# Altium footprint library fly.PcbLib: 37 footprints (part 1 of 3)
Each footprint in its own frame and in the unit in brackets; x right, y up, seen from the top. Pads: shape width x height; smd on the part's side, far side on the other; paste and mask are expansions set on the pad; w line width, h text height; cw(c..) or ccw(c..) is an arc to the next point about the centre after c.
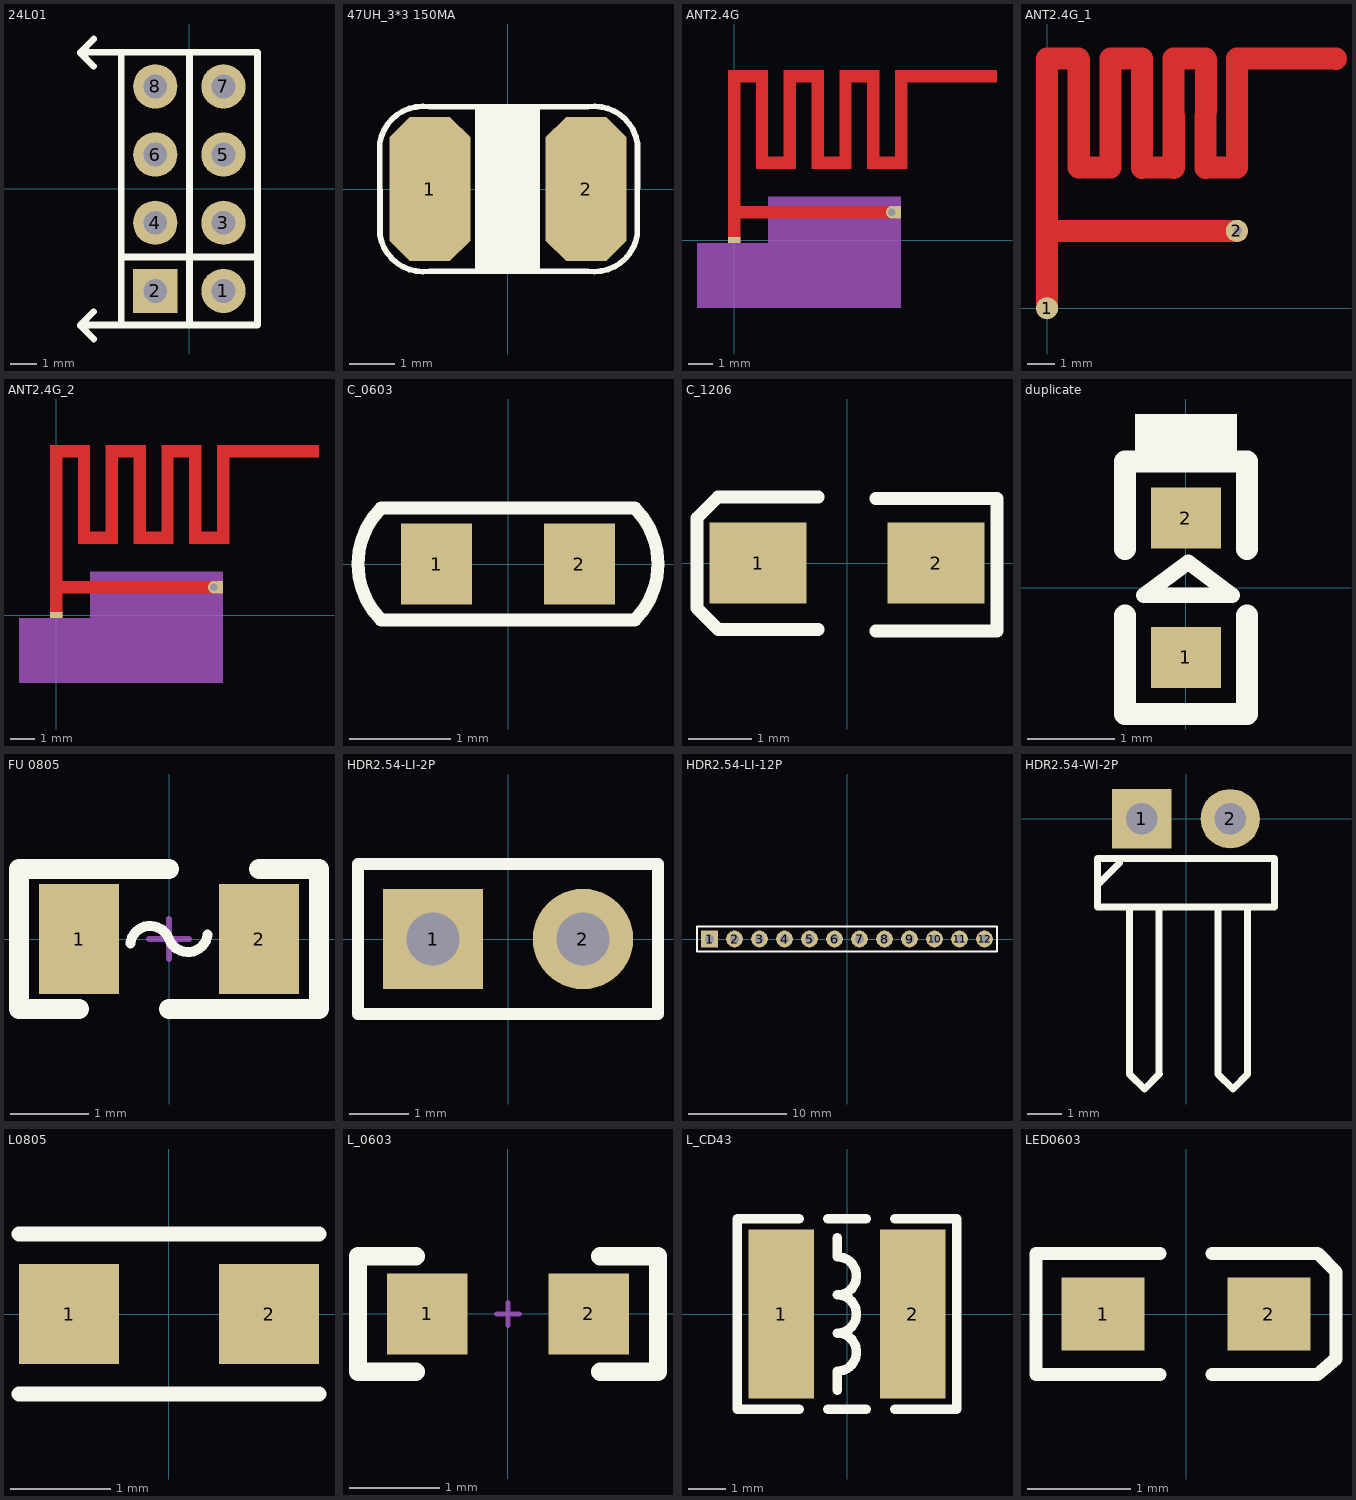
[diagram p0: the footprints below, top view; thin cyan lines are the x and y axes]

## 24L01 [mil]
pads (8):
  round 65 hole 35: 1(50.24,-149.5) 3(50.24,-49.5) 4(-49.76,-49.5) 5(50.24,50.5) 6(-49.76,50.5) 7(50.24,150.5) 8(-49.76,150.5)
  rect 65x65 hole 35: 2(-49.76,-149.5)
Top Overlay:
  lines w10: -159.5,-200.5 -140,-220 ; -140,-180 -159.5,-199.5 -99.76,-199.5 ; -140,180 -159.5,199.5 -159.5,200.5 ; -140,220 -159.5,200.5 ; -99.76,-99.5 0.23,-99.5 100.23,-99.5 ; -159.5,200.5 -99.76,200.5 ; -99.76,-199.5 0.23,-199.5 ; -99.76,-199.5 -99.76,200.5 ; -99.76,200.5 0.24,200.5 ; 0.24,-199.5 100.23,-199.5 100.24,200.5 0.24,200.5 ; 0.24,-199.5 0.24,200.5 ; 0.23,-199.5 0.24,200.5

## 47UH_3*3 150MA [mm]
pads (2):
  oct 1.8x3.2 smd: 1(-1.74,0) 2(1.74,0)
Top Overlay:
  rectangle: -0.732,-1.829 0.715,1.829
  lines w0.127: -2.855,1.019 cw(c-1.896,0.871) -1.748,1.829 1.777,1.829 cw(c1.925,0.871) 2.883,1.019 2.88,-1.019 cw(c1.922,-0.871) 1.774,-1.829 -1.746,-1.829 cw(c-1.894,-0.871) -2.852,-1.019 -2.855,1.019

## ANT2.4G [mil]
height 39.37
pads (2):
  rect 20x10 smd paste-20 mask+2: 1(0,0)
  rect 10x20 smd paste-20 mask+2: 2(265,45)
via 255,45 diameter 19.68 hole 11.81
Top Layer:
  rectangle: -10,35 270,55
  rectangle: 260,255 425,275
  rectangle: 260,115 280,275
  rectangle: 215,115 235,275
  rectangle: 215,115 280,135
  rectangle: 125,115 190,135
  rectangle: 85,255 145,275
  rectangle: 125,115 145,275
  rectangle: 170,115 190,275
  rectangle: 170,255 235,275
  rectangle: 80,115 100,275
  rectangle: 35,115 100,135
  rectangle: 35,115 55,265
  rectangle: -10,255 55,275
  rectangle: -10,-5 10,275
Mechanical 1:
  rectangle: -60,-110 270,-5
Mechanical 3:
  rectangle: 55,-85 270,70
  rectangle: -60,-110 270,-5

## ANT2.4G_1 [mm]
pads (2):
  round 0.8 smd paste+0 mask+0.102: 1(0,0) 2(6.858,2.794)
via 6.883,2.794 diameter 0.61 hole 0.305
Top Layer:
  lines w0.8: -0.001,0.024 0,9.017 1.14,9.017 ; 0,2.794 6.858,2.794 ; 1.144,8.98 1.143,5.08 2.283,5.08 ; 2.286,5.08 2.287,8.98 ; 2.286,9.017 3.426,9.017 ; 3.429,5.077 3.429,8.98 ; 3.429,5.08 4.569,5.08 ; 4.577,5.077 4.572,9.017 5.712,9.017 ; 5.718,5.077 5.74,8.992 ; 5.718,5.08 6.858,5.08 6.858,8.977 ; 6.858,9.017 10.437,9.016

## ANT2.4G_2 [mil]
height 39.37
pads (2):
  rect 20x10 smd paste-20 mask+2: 1(0,0)
  rect 10x20 smd paste-20 mask+2: 2(265,45)
via 255,45 diameter 19.68 hole 11.81
Top Layer:
  rectangle: -10,35 270,55
  rectangle: 260,255 425,275
  rectangle: 260,115 280,275
  rectangle: 215,115 235,275
  rectangle: 215,115 280,135
  rectangle: 125,115 190,135
  rectangle: 85,255 145,275
  rectangle: 125,115 145,275
  rectangle: 170,115 190,275
  rectangle: 170,255 235,275
  rectangle: 80,115 100,275
  rectangle: 35,115 100,135
  rectangle: 35,115 55,265
  rectangle: -10,255 55,275
  rectangle: -10,-5 10,275
Mechanical 1:
  rectangle: -60,-110 270,-5
Mechanical 3:
  rectangle: 55,-85 270,70
  rectangle: -60,-110 270,-5

## C_0603 [mm]
height 6
pads (2):
  rect 0.7x0.8 smd: 1(-0.703,0) 2(0.703,0)
Top Overlay:
  lines w0.127: -1.25,-0.55 cw(c-0.7,0) -1.25,0.55 1.25,0.55 cw(c0.7,0) 1.25,-0.55 -1.25,-0.55
3D body "User Library-CapCeramic_Kemet_0603_1608.STEP": height 0.8, standoff 0, extent -0.8,-0.4 0.8,0.4

## C_1206 [mil]
height 236.22
pads (2):
  rect 60x50 smd: 1(-55,0) 2(55,0)
Top Overlay:
  lines w5: 50.82,39.98 92.72,39.98 ; 60.82,-42.02 92.72,-42.02
  lines w8: -17.82,-41.03 -70.82,-41.03 -79.66,-41.03 -92.82,-27.87 -92.82,-19.03 -92.82,18.75 -92.82,27.93 -79.78,40.97 -70.6,40.97 -17.82,40.97 ; 17.72,-42.02 70.72,-42.02 ; 17.72,39.98 70.72,39.98 ; 44.72,39.98 92.72,39.98 92.72,-42.02 47.72,-42.02
3D body "User Library-cap3216h160.STEP": height 62.99, standoff 0, extent -63,-31.5 62.98,31.5

## duplicate [mm]
pads (2):
  rect 0.8x0.7 smd: 1(0,-0.8) 2(0,0.8)
Top Overlay:
  rectangle: -0.583,1.45 0.586,1.994
  lines w0.178: -0.483,-0.089 0.025,0.292 0.533,-0.089 -0.483,-0.089
  lines w0.254: -0.7,-0.317 -0.7,-1.45 0.7,-1.45 0.7,-0.317 ; -0.7,0.445 -0.7,1.45 0.7,1.45 0.7,0.445

## FU 0805 [mil] "贴片保险丝"
pads (2):
  rect 40x55 smd: 1(-45,0) 2(45,0)
Top Overlay:
  lines w5: -19.33,-2.28 cw(c-9.4,-3.42) 0,0 ccw(c9.4,3.42) 19.33,2.28
  lines w10: -45,-35 -75,-35 -75,35 -45,35 0,35 ; 0,-35 60,-35 ; 45,35 75,35 75,-35 50,-35
Mechanical 15:
  lines w3: -10,0 10,0 ; 0,-10 0,10
3D body "FU 0805.STEP": height 20.47, standoff 0, extent -39.37,-24.02 39.37,24.02

## HDR2.54-LI-2P [mm] "排针，2脚"
pads (2):
  rect 1.7x1.7 hole 0.9: 1(-1.27,0)
  round 1.7 hole 0.9: 2(1.27,0)
Top Overlay:
  lines w0.2: -2.54,-1.27 -2.54,1.27 2.54,1.27 2.54,-1.27 -2.54,-1.27
3D body "HDR2.54-1P.STEP": height 8.5, standoff -3, extent 0,-1.27 2.54,1.27
3D body "HDR2.54-1P.STEP": height 8.5, standoff -3, extent -2.54,-1.27 0,1.27

## HDR2.54-LI-12P [mm] "排针，13脚"
pads (12):
  rect 1.7x1.7 hole 0.9: 1(-13.97,0)
  round 1.7 hole 0.9: 2(-11.43,0) 3(-8.89,0) 4(-6.35,0) 5(-3.81,0) 6(-1.27,0) 7(1.27,0) 8(3.81,0) 9(6.35,0) 10(8.89,0) 11(11.43,0) 12(13.97,0)
Top Overlay:
  lines w0.2: -15.24,-1.27 -15.24,1.27 15.24,1.27 15.24,-1.27 -15.24,-1.27
3D body "HDR2.54-1P.STEP": height 8.5, standoff -3, extent 10.16,-1.27 12.7,1.27
3D body "HDR2.54-1P.STEP": height 8.5, standoff -3, extent 12.7,-1.27 15.24,1.27
3D body "HDR2.54-1P.STEP": height 8.5, standoff -3, extent 7.62,-1.27 10.16,1.27
3D body "HDR2.54-1P.STEP": height 8.5, standoff -3, extent 2.54,-1.27 5.08,1.27
3D body "HDR2.54-1P.STEP": height 8.5, standoff -3, extent 5.08,-1.27 7.62,1.27
3D body "HDR2.54-1P.STEP": height 8.5, standoff -3, extent -2.54,-1.27 0,1.27
3D body "HDR2.54-1P.STEP": height 8.5, standoff -3, extent 0,-1.27 2.54,1.27
3D body "HDR2.54-1P.STEP": height 8.5, standoff -3, extent -5.08,-1.27 -2.54,1.27
3D body "HDR2.54-1P.STEP": height 8.5, standoff -3, extent -10.16,-1.27 -7.62,1.27
3D body "HDR2.54-1P.STEP": height 8.5, standoff -3, extent -7.62,-1.27 -5.08,1.27
3D body "HDR2.54-1P.STEP": height 8.5, standoff -3, extent -15.24,-1.27 -12.7,1.27
3D body "HDR2.54-1P.STEP": height 8.5, standoff -3, extent -12.7,-1.27 -10.16,1.27

## HDR2.54-WI-2P [mm] "弯脚排针，2脚"
pads (2):
  rect 1.7x1.7 hole 0.9: 1(-1.27,0)
  round 1.7 hole 0.9: 2(1.27,0)
Top Overlay:
  lines w0.2: -2.54,-1.905 -1.905,-1.27 ; -1.618,-2.54 -1.618,-7.332 -1.195,-7.755 -0.771,-7.332 -0.762,-7.323 ; -0.771,-7.323 -0.771,-2.54 ; 0.922,-2.54 0.922,-7.332 1.345,-7.755 1.769,-7.332 ; 1.769,-7.323 1.769,-2.54 ; -2.54,-2.54 2.54,-2.54 2.54,-1.143 -0.762,-1.143 -2.54,-1.143 -2.54,-2.54
3D body "HDR2.54-1P_H.STEP": height 4.85, standoff -3, extent -2.54,-7.77 0,1.27
3D body "HDR2.54-1P_H.STEP": height 4.85, standoff -3, extent 0,-7.77 2.54,1.27

## L0805 [mm]
pads (2):
  rect 1x1 smd: 1(-1,0) 2(1,0)
Top Overlay:
  lines w0.15: -1.5,-0.8 1.5,-0.8 ; -1.5,0.8 1.5,0.8

## L_0603 [mil] "小功率贴片电感"
pads (2):
  rect 35x35 smd: 1(-35,0) 2(35,0)
Top Overlay:
  lines w8: -40,-25 -65,-25 -65,25 -40,25 ; 40,-25 65,-25 65,25 40,25
Mechanical 15:
  lines w2: -5,0 5,0 ; 0,-5 0,0 0,5
3D body "0603.STEP": height 31.5, standoff -0.11, extent -31.5,-15.75 31.5,15.75

## L_CD43 [mm] "4.5*4*3.2mm（长宽高）"
pads (2):
  rect 1.75x4.5 smd: 1(-1.75,0) 2(1.75,0)
Top Overlay:
  lines w0.254: -1.27,-2.54 -2.921,-2.54 -2.921,2.54 -1.27,2.54 ; -0.508,-2.54 0.508,-2.54 ; -0.508,2.54 0.508,2.54 ; -0.254,-2.032 -0.254,-1.524 ccw(c-0.254,-1.016) -0.254,-0.508 ccw(c-0.254,0) -0.254,0.508 ccw(c-0.254,1.016) -0.254,1.524 -0.254,2.032 ; 1.27,-2.54 2.921,-2.54 2.921,2.54 1.27,2.54
3D body "CD43.STEP": height 3.3, standoff 0, extent -2.21,-2 2.21,2

## LED0603 [mm]
height 6
pads (2):
  rect 0.8x0.7 smd: 1(-0.8,0) 2(0.8,0)
Top Overlay:
  lines w0.127: -0.254,-0.584 -1.448,-0.584 -1.448,0.584 -0.254,0.584 ; 0.254,-0.584 1.27,-0.584 1.448,-0.432 1.448,0.406 1.27,0.584 0.254,0.584
3D body "LED 0603玻璃罩.": height 0, standoff 0, extent 0,0 0,0
3D body "LED 0603-G.STEP": height 0.47, standoff 0, extent -0.8,-0.401 0.8,0.401